# Altium footprint library PCB - LED - VISHAY 1414_3535 UV.PcbLib: 1 footprints
Each footprint in its own frame and in the unit in brackets; x right, y up, seen from the top. Pads: shape width x height; smd on the part's side, far side on the other; paste and mask are expansions set on the pad; w line width, h text height; cw(c..) or ccw(c..) is an arc to the next point about the centre after c.
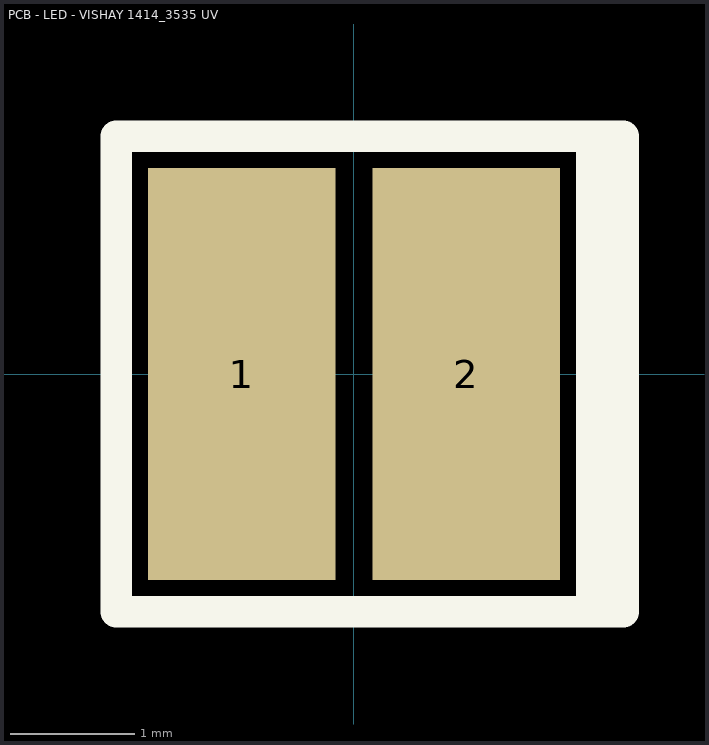
[diagram p0: the footprint, top view; thin cyan lines are the x and y axes]

## PCB - LED - VISHAY 1414_3535 UV [mm] "PCB - LED - VISHAY 1414_3535 UV"
pads (2):
  rect 1.5x3.3 smd: 1(-0.9,0) 2(0.9,0)
Top Overlay:
  lines w0.254: 2.032,-1.905 2.032,1.905 ; 1.905,-1.905 2.159,-1.905 2.159,1.905 1.905,1.905 ; 1.905,-1.905 1.905,1.905 ; 1.905,-1.905 -1.905,-1.905 -1.905,1.905 1.905,1.905